# EAGLE library part AD8494ARMZ (library vulcan-1)
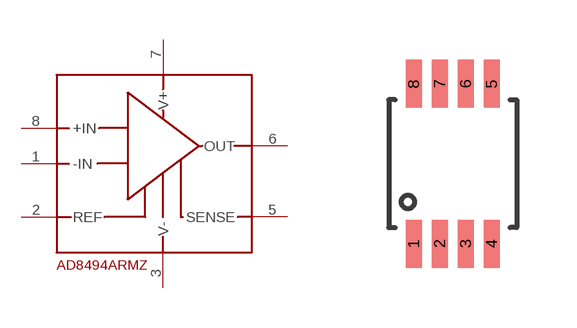
[diagram p3: symbol with the pads of MSOP-8; footprint MSOP-8]

Designator prefix -

## AD8494ARMZ  [MSOP-8]
1  -IN
2  REF
3  V-
5  SENSE
6  OUT
7  V+
8  +IN

## Footprint MSOP-8 (pad centres in mm)
smd 0.4 x 1.2: 1 -0.975,-2; 2 -0.325,-2; 3 0.325,-2; 4 0.975,-2; 5 0.975,2; 6 0.325,2; 7 -0.325,2; 8 -0.975,2